# Altium footprint library DIOM.PcbLib: 3 footprints
Each footprint in its own frame and in the unit in brackets; x right, y up, seen from the top. Pads: shape width x height; smd on the part's side, far side on the other; paste and mask are expansions set on the pad; w line width, h text height; cw(c..) or ccw(c..) is an arc to the next point about the centre after c.
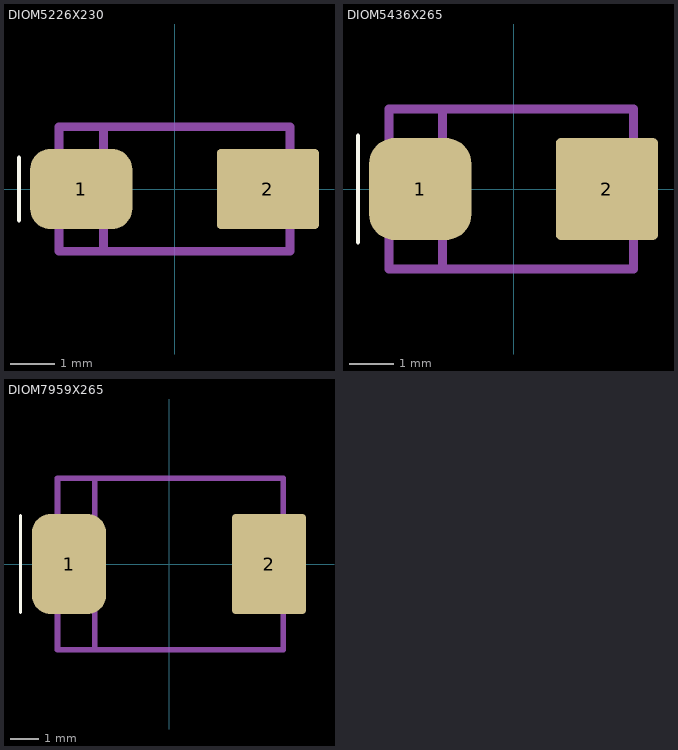
[diagram p0: the footprints below, top view; thin cyan lines are the x and y axes]

## DIOM5226X230 [mm] "DO-214AC"
height 2.3
pads (2):
  rrect50% 2.3x1.8 smd: 1(-2.1,0)
  rrect10% 2.3x1.8 smd: 2(2.1,0)
Top Overlay:
  lines w0.1: -3.5,-0.7 -3.5,0.7
Top Assembly:
  lines w0.2: -1.6,-1.4 -1.6,1.4 ; -2.6,-1.4 -2.6,1.4 2.6,1.4 2.6,-1.4 -2.6,-1.4
3D body "DIOM5226X230.step": height 2.29, standoff 0, extent -2.6,-1.4 2.6,1.4

## DIOM5436X265 [mm] "DO-214AA"
height 2.3
pads (2):
  rrect50% 2.3x2.3 smd: 1(-2.1,0)
  rrect10% 2.3x2.3 smd: 2(2.1,0)
Top Overlay:
  lines w0.1: -3.5,-1.2 -3.5,1.2
Top Assembly:
  lines w0.2: -1.6,-1.8 -1.6,1.8 ; -2.8,-1.8 2.7,-1.8 2.7,1.8 -2.8,1.8 -2.8,-1.8
3D body "DIOM5436X265.stp": height 2.65, standoff 0, extent -2.7,-1.8 2.7,1.8

## DIOM7959X265 [mm] "DO-214AB"
height 2.3
pads (2):
  rrect50% 2.6x3.5 smd: 1(-3.5,0)
  rrect10% 2.6x3.5 smd: 2(3.5,0)
Top Overlay:
  lines w0.1: -5.2,-1.7 -5.2,1.7
Top Assembly:
  lines w0.2: -2.6,-3 -2.6,3 ; -3.9,-3 4,-3 4,3 -3.9,3 -3.9,-3
3D body "DIOM7959X265.stp": height 2.3, standoff 0, extent -3.95,-2.95 3.95,2.95